# Altium integrated library Analog Devices Data Converters Analog-to-Digital Converters.IntLib: 2404 symbols (part 193 of 346)
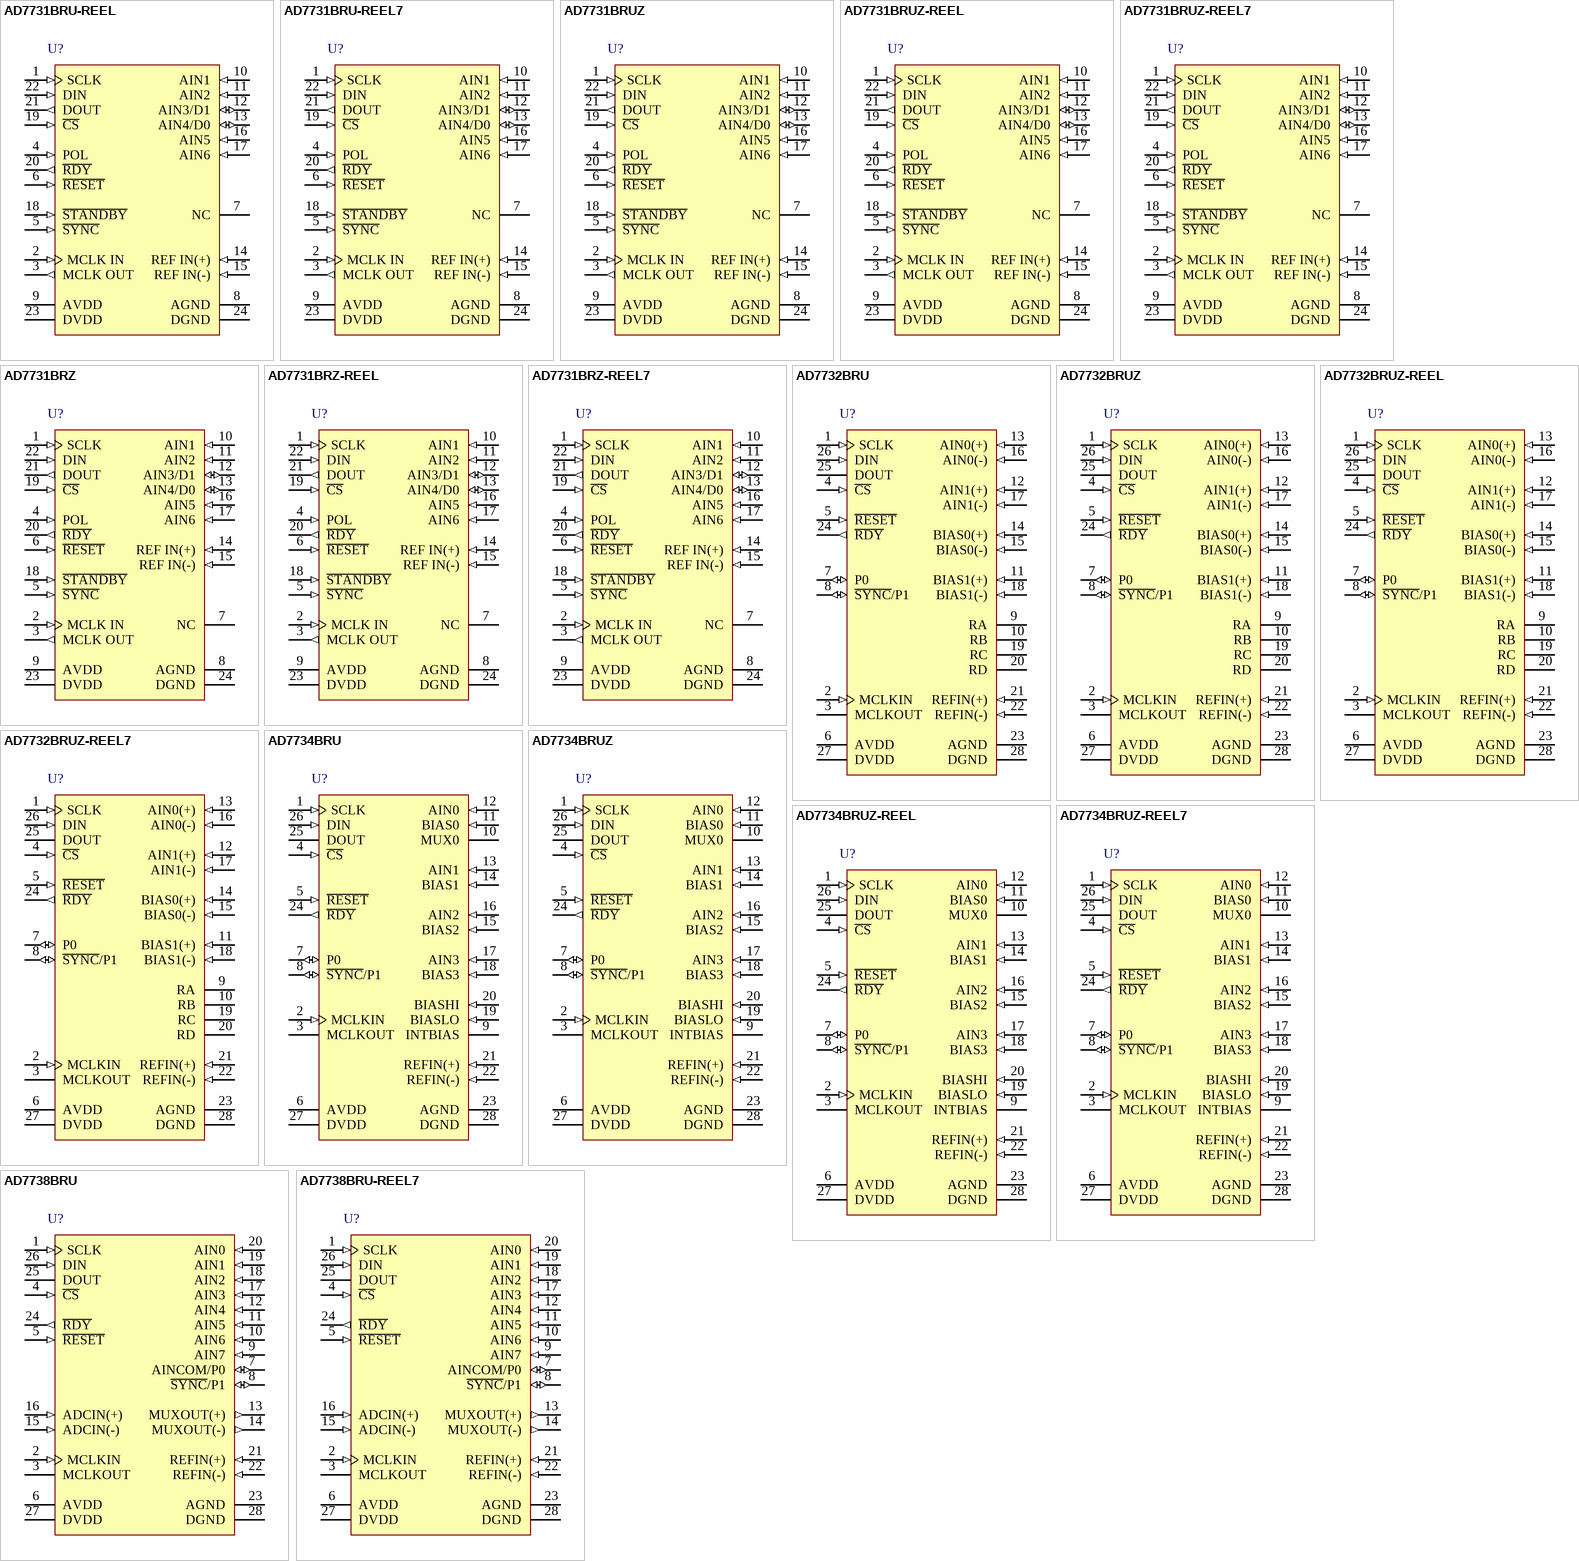
[diagram p259: symbols AD7731BRU-REEL to AD7738BRU-REEL7]

## AD7731BRUZ-REEL
designator U?
3 Channel 24-Bit Low Noise Sigma-Delta Analog-to-Digital Converter with Serial, SPI Interface, High Throughput, 6.4KSPS, -40 to +85 degC, RU-24, Pb-Free, Reel; Generic Part Number: AD7731; Manufacturer: Analog Devices; PartNumber: AD7731BRUZ-REEL; Resolution (Bits): 24; Channels: 3; Throughput Rate (SPS): 6.4K; Interface: Ser, SPI; DatasheetVersion: Rev.A; PackageVersion: 2002; PackageReference: RU-24; PackageDescription: 24-Lead Thin Shrink Small Outline Package [TSSOP]; Supplier 1: Digi-Key; Supplier Part Number 1: AD7731BRUZ-REEL-ND; Supplier 2: Mouser; Supplier Part Number 2: 584-AD7731BRUZ-R; RoHS: Y; Packing: Reel; Mounting Technology: Surface Mount; Code_JEDEC: MO-153-AD; ComponentLink1Description: Manufacturer URL; ComponentLink1URL: http://www.analog.com/en/index.html; ComponentLink2Description: Datasheet; ComponentLink2URL: http://www.analog.com/static/imported-files/data_sheets/AD7731.pdf; ComponentLink3Description: Package Specification; ComponentLink3URL: http://www.analog.com/static/imported-files/packages/380523655245964505593671154107510036154RU24.pdf; ComponentLink4Description: Product URL; ComponentLink4URL: http://www.analog.com/en/analog-to-digital-converters/ad-converters/ad7731/products/product.html
footprint RU-24_N (TSOP, 24-Leads, Body 7.8x4.4mm, Pitch 0.65mm, IPC Medium Density)
footprint RU-24_L (TSOP, 24-Leads, Body 7.8x4.4mm, Pitch 0.65mm, IPC High Density)
footprint RU-24_M (TSOP, 24-Leads, Body 7.8x4.4mm, Pitch 0.65mm, IPC Low Density)
pins: 1 SCLK (in) "Serial Clock. Schmitt-Triggered Logic Input. An external serial clock is applied to this input to transfer serial data to or from the AD7731.  This serial clock can be a continuous clock with all data transmitted in a (See Datasheet)", 2 MCLK IN (in) "Master Clock signal for the device. This can be provided in the form of a crystal/resonator or external clock. A crystal/resonator can be tied across the MCLK IN and MCLK OUT pins. Alternatively, the MCLK IN  pin can be (See Datasheet)", 3 MCLK OUT (out) "When the master clock for the device is a crystal/resonator, the crystal/resonator is connected between  MCLK IN and MCLK OUT. If an external clock is applied to the MCLK IN, MCLK OUT provides an inverted clock signal. This (See Datasheet)", 4 POL (in) "Clock Polarity. Logic Input. This determines the polarity of the serial clock. If the active edge for the processor   is a high-to-low SCLK transition, this input should be low. In this mode, the AD7731 puts out data on  the (See Datasheet)", 5 ~{SYNC} (in) "Logic Input that allows for synchronization of the digital filters and analog modulators when using a number of AD7731s. While S\Y\N\C\ is low, the nodes of the digital filter, the filter control logic and the calibration  (See Datasheet)", 6 ~{RESET} (in) "Logic Input. Active low input that resets the control logic, interface logic, digital filter, analog modulator and all on-chip registers of the part to power-on status. Effectively, everything on the part except for the (See Datasheet)", 7 NC "No Connect. The user is advised not to connect anything to this pin.", 8 AGND (power) "Ground reference point for analog circuitry.", 9 AVDD (power) "Analog Positive Supply Voltage. The AVDD to AGND differential is 5 V nominal.", 10 AIN1 (in) "Analog Input Channel 1. Programmable-gain analog input that can be used as a pseudo-differential input  when used with AIN6 or as the positive input of a differential pair when used with AIN2.", 11 AIN2 (in) "Analog Input Channel 2. Programmable-gain analog input that can be used as a pseudo-differential input  when used with AIN6 or as the positive input of a differential pair when used with AIN1.", 12 AIN3/D1 (io) "Analog Input Channel 3 or Digital Output 1. This pin can be used as either an analog input or a digital  output bit as determined by the DEN bit of the Mode Register. When selected as a programmable-gain analog input, it can (See Datasheet)", 13 AIN4/D0 (io) "Analog Input Channel 4 or Digital Output 0. This pin can be used as either an analog input or a digital  output bit as determined by the DEN bit of the Mode Register. When selected as a programmable-gain analog input, it can (See Datasheet)", 14 REF IN(+) (in) "Reference Input. Positive terminal of the differential reference input to the AD7731. REF IN(+) can lie anywhere between AVDD and AGND. The nominal reference voltage (i.e., the differential voltage between  REF IN(+) and REF (See Datasheet)", 15 REF IN(-) (in) "Reference Input. Negative terminal of the differential reference input to the AD7731. The REF IN(-) can lie anywhere between AVDD and AGND.", 16 AIN5 (in) "Analog Input Channel 5. Programmable-gain analog input which can be used is the positive input of a differential pair when used with AIN6.", 17 AIN6 (in) "Analog Input Channel 6. Reference point for AIN1 through AIN4 in pseudo-differential mode or as the negative input of a differential input pair when used with AIN5.", 18 ~{STANDBY} (in) "Logic Input. Taking this pin low shuts down the analog and digital circuitry, reducing current consumption to the 10 mA range. The on-chip registers retain all their values when the part is in standby mode.", 19 ~{CS} (in) "Chip Select. Active low Logic Input used to select the AD7731. With this input hardwired low, the  AD7731 can operate in its three-wire interface mode with SCLK, DIN and DOUT used to interface to the device. C\S\ can be used (See Datasheet)", 20 ~{RDY} (out) "Logic output. Used as a status output in both conversion mode and calibration mode. In conversion mode, a logic low on this output indicates that a new output word is available from the AD7731 data register. The R\D\Y\ pin (See Datasheet)", 21 DOUT (out) "Serial Data Output with serial data being read from the output shift register on the part. This output shift  register can contain information from the calibration registers, mode register, status register, filter register (See Datasheet)", 22 DIN (in) "Serial Data Input with serial data being written to the input shift register on the part. Data from this input  shift register is transferred to the calibration registers, mode register, communications register or filter (See Datasheet)", 23 DVDD (power) "Digital Supply Voltage, +3 V or +5 V nominal.", 24 DGND (power) "Ground reference point for digital circuitry."

## AD7731BRUZ-REEL7
designator U?
3 Channel 24-Bit Low Noise Sigma-Delta Analog-to-Digital Converter with Serial, SPI Interface, High Throughput, 6.4KSPS, -40 to +85 degC, RU-24, Pb-Free, Reel; Generic Part Number: AD7731; Manufacturer: Analog Devices; PartNumber: AD7731BRUZ-REEL7; Resolution (Bits): 24; Channels: 3; Throughput Rate (SPS): 6.4K; Interface: Ser, SPI; DatasheetVersion: Rev.A; PackageVersion: 2002; PackageReference: RU-24; PackageDescription: 24-Lead Thin Shrink Small Outline Package [TSSOP]; Supplier 1: Digi-Key; Supplier Part Number 1: AD7731BRUZ-REEL7-ND; Supplier 2: Mouser; Supplier Part Number 2: 584-AD7731BRUZ-R7; RoHS: Y; Packing: Reel; Mounting Technology: Surface Mount; Code_JEDEC: MO-153-AD; ComponentLink1Description: Manufacturer URL; ComponentLink1URL: http://www.analog.com/en/index.html; ComponentLink2Description: Datasheet; ComponentLink2URL: http://www.analog.com/static/imported-files/data_sheets/AD7731.pdf; ComponentLink3Description: Package Specification; ComponentLink3URL: http://www.analog.com/static/imported-files/packages/380523655245964505593671154107510036154RU24.pdf; ComponentLink4Description: Product URL; ComponentLink4URL: http://www.analog.com/en/analog-to-digital-converters/ad-converters/ad7731/products/product.html
footprint RU-24_N (TSOP, 24-Leads, Body 7.8x4.4mm, Pitch 0.65mm, IPC Medium Density)
footprint RU-24_L (TSOP, 24-Leads, Body 7.8x4.4mm, Pitch 0.65mm, IPC High Density)
footprint RU-24_M (TSOP, 24-Leads, Body 7.8x4.4mm, Pitch 0.65mm, IPC Low Density)
pins: 1 SCLK (in) "Serial Clock. Schmitt-Triggered Logic Input. An external serial clock is applied to this input to transfer serial data to or from the AD7731.  This serial clock can be a continuous clock with all data transmitted in a (See Datasheet)", 2 MCLK IN (in) "Master Clock signal for the device. This can be provided in the form of a crystal/resonator or external clock. A crystal/resonator can be tied across the MCLK IN and MCLK OUT pins. Alternatively, the MCLK IN  pin can be (See Datasheet)", 3 MCLK OUT (out) "When the master clock for the device is a crystal/resonator, the crystal/resonator is connected between  MCLK IN and MCLK OUT. If an external clock is applied to the MCLK IN, MCLK OUT provides an inverted clock signal. This (See Datasheet)", 4 POL (in) "Clock Polarity. Logic Input. This determines the polarity of the serial clock. If the active edge for the processor   is a high-to-low SCLK transition, this input should be low. In this mode, the AD7731 puts out data on  the (See Datasheet)", 5 ~{SYNC} (in) "Logic Input that allows for synchronization of the digital filters and analog modulators when using a number of AD7731s. While S\Y\N\C\ is low, the nodes of the digital filter, the filter control logic and the calibration  (See Datasheet)", 6 ~{RESET} (in) "Logic Input. Active low input that resets the control logic, interface logic, digital filter, analog modulator and all on-chip registers of the part to power-on status. Effectively, everything on the part except for the (See Datasheet)", 7 NC "No Connect. The user is advised not to connect anything to this pin.", 8 AGND (power) "Ground reference point for analog circuitry.", 9 AVDD (power) "Analog Positive Supply Voltage. The AVDD to AGND differential is 5 V nominal.", 10 AIN1 (in) "Analog Input Channel 1. Programmable-gain analog input that can be used as a pseudo-differential input  when used with AIN6 or as the positive input of a differential pair when used with AIN2.", 11 AIN2 (in) "Analog Input Channel 2. Programmable-gain analog input that can be used as a pseudo-differential input  when used with AIN6 or as the positive input of a differential pair when used with AIN1.", 12 AIN3/D1 (io) "Analog Input Channel 3 or Digital Output 1. This pin can be used as either an analog input or a digital  output bit as determined by the DEN bit of the Mode Register. When selected as a programmable-gain analog input, it can (See Datasheet)", 13 AIN4/D0 (io) "Analog Input Channel 4 or Digital Output 0. This pin can be used as either an analog input or a digital  output bit as determined by the DEN bit of the Mode Register. When selected as a programmable-gain analog input, it can (See Datasheet)", 14 REF IN(+) (in) "Reference Input. Positive terminal of the differential reference input to the AD7731. REF IN(+) can lie anywhere between AVDD and AGND. The nominal reference voltage (i.e., the differential voltage between  REF IN(+) and REF (See Datasheet)", 15 REF IN(-) (in) "Reference Input. Negative terminal of the differential reference input to the AD7731. The REF IN(-) can lie anywhere between AVDD and AGND.", 16 AIN5 (in) "Analog Input Channel 5. Programmable-gain analog input which can be used is the positive input of a differential pair when used with AIN6.", 17 AIN6 (in) "Analog Input Channel 6. Reference point for AIN1 through AIN4 in pseudo-differential mode or as the negative input of a differential input pair when used with AIN5.", 18 ~{STANDBY} (in) "Logic Input. Taking this pin low shuts down the analog and digital circuitry, reducing current consumption to the 10 mA range. The on-chip registers retain all their values when the part is in standby mode.", 19 ~{CS} (in) "Chip Select. Active low Logic Input used to select the AD7731. With this input hardwired low, the  AD7731 can operate in its three-wire interface mode with SCLK, DIN and DOUT used to interface to the device. C\S\ can be used (See Datasheet)", 20 ~{RDY} (out) "Logic output. Used as a status output in both conversion mode and calibration mode. In conversion mode, a logic low on this output indicates that a new output word is available from the AD7731 data register. The R\D\Y\ pin (See Datasheet)", 21 DOUT (out) "Serial Data Output with serial data being read from the output shift register on the part. This output shift  register can contain information from the calibration registers, mode register, status register, filter register (See Datasheet)", 22 DIN (in) "Serial Data Input with serial data being written to the input shift register on the part. Data from this input  shift register is transferred to the calibration registers, mode register, communications register or filter (See Datasheet)", 23 DVDD (power) "Digital Supply Voltage, +3 V or +5 V nominal.", 24 DGND (power) "Ground reference point for digital circuitry."

## AD7731BRZ
designator U?
3 Channel 24-Bit Low Noise Sigma-Delta Analog-to-Digital Converter with Serial, SPI Interface, High Throughput, 6.4KSPS, 0 to +70 degC, RW-24, Pb-Free, Tube; Generic Part Number: AD7731; Manufacturer: Analog Devices; PartNumber: AD7731BRZ; Resolution (Bits): 24; Channels: 3; Throughput Rate (SPS): 6.4K; Interface: Ser, SPI; DatasheetVersion: Rev.A; PackageVersion: 060706-A; PackageReference: RW-24; PackageDescription: 24-Lead Standard Small Outline Package [SOIC_W]; Supplier 1: Digi-Key; Supplier Part Number 1: AD7731BRZ-ND; Supplier 2: Farnell; Supplier Part Number 2: 2305563; Supplier 3: Newark; Supplier Part Number 3: 84W7443; Supplier 4: Newark; Supplier Part Number 4: 59K5389; Supplier 5: Mouser; Supplier Part Number 5: 584-AD7731BRZ; RoHS: Y; Packing: Tube; Mounting Technology: Surface Mount; Code_JEDEC: MS-013-AD; ComponentLink1Description: Manufacturer URL; ComponentLink1URL: http://www.analog.com/en/index.html; ComponentLink2Description: Datasheet; ComponentLink2URL: http://www.analog.com/static/imported-files/data_sheets/AD7731.pdf; ComponentLink3Description: Package Specification; ComponentLink3URL: http://www.analog.com/static/imported-files/packages/33665150946139RW_24.pdf; ComponentLink4Description: Product URL; ComponentLink4URL: http://www.analog.com/en/analog-to-digital-converters/ad-converters/ad7731/products/product.html
footprint RW-24_N (SOIC, 24-Leads, Body 15.4x7.5mm, Pitch 1.27mm, IPC Medium Density)
footprint RW-24_L (SOIC, 24-Leads, Body 15.4x7.5mm, Pitch 1.27mm, IPC High Density)
footprint RW-24_M (SOIC, 24-Leads, Body 15.4x7.5mm, Pitch 1.27mm, IPC Low Density)
pins: 1 SCLK (in) "Serial Clock. Schmitt-Triggered Logic Input. An external serial clock is applied to this input to transfer serial data to or from the AD7731. This serial clock can be a continuous clock with all data transmitted in a (See Datasheet)", 2 MCLK IN (in) "Master Clock signal for the device. This can be provided in the form of a crystal/resonator or external clock.A crystal/resonator can be tied across the MCLK IN and MCLK OUT pins. Alternatively, the MCLK IN pin can be driven (See Datasheet)", 3 MCLK OUT (out) "When the master clock for the device is a crystal/resonator, the crystal/resonator is connected between MCLK IN and MCLK OUT. If an external clock is applied to the MCLK IN, MCLK OUT provides an inverted clock signal. This (See Datasheet)", 4 POL (in) "Clock Polarity. Logic Input. This determines the polarity of the serial clock. If the active edge for the processor is a high-to-low SCLK transition, this input should be low. In this mode, the AD7731 puts out data on the (See Datasheet)", 5 ~{SYNC} (in) "Logic Input that allows for synchronization of the digital filters and analog modulators when using a number of AD7731s. While S\Y\N\C\ is low, the nodes of the digital filter, the filter control logic and the calibration (See Datasheet)", 6 ~{RESET} (in) "Logic Input. Active low input that resets the control logic, interface logic, digital filter, analog modulator and all on-chip registers of the part to power-on status. Effectively, everything on the part except for the (See Datasheet)", 7 NC "No Connect. The user is advised not to connect anything to this pin.", 8 AGND (power) "Ground reference point for analog circuitry", 9 AVDD (power) "Analog Positive Supply Voltage. The AVDD to AGND differential is 5 V nominal.", 10 AIN1 (in) "Analog Input Channel 1. Programmable-gain analog input that can be used as a pseudo-differential input when used with AIN6 or as the positive input of a differential pair when used with AIN2.", 11 AIN2 (in) "Analog Input Channel 2. Programmable-gain analog input that can be used as a pseudo-differential input when used with AIN6 or as the negative input of a differential pair when used with AIN1.", 12 AIN3/D1 (io) "Analog Input Channel 3 or Digital Output 1. This pin can be used as either an analog input or a digital output bit as determined by the DEN bit of the Mode Register. When selected as a programmable-gain analog input, it can (See Datasheet)", 13 AIN4/D0 (io) "Analog Input Channel 4 or Digital Output 0. This pin can be used as either an analog input or a digital output bit as determined by the DEN bit of the Mode Register. When selected as a programmable-gain analog input, it can (See Datasheet)", 14 REF IN(+) (in) "Reference Input. Positive terminal of the differential reference input to the AD7731. REF IN(+) can lie anywhere between AVDD and AGND. The nominal reference voltage (i.e., the differential voltage between REF IN(+) and REF (See Datasheet)", 15 REF IN(-) (in) "Reference Input. Negative terminal of the differential reference input to the AD7731. The REF IN(-) can lie anywhere between AVDD and AGND.", 16 AIN5 (in) "Analog Input Channel 5. Programmable-gain analog input which can be used is the positive input of a differ ential pair when used with AIN6.", 17 AIN6 (in) "Analog Input Channel 6. Reference point for AIN1 through AIN4 in pseudo-differential mode or as the negative input of a differential input pair when used with AIN5.", 18 ~{STANDBY} (in) "Logic Input. Taking this pin low shuts down the analog and digital circuitry, reducing current consumption to the 10 μA range. The on-chip registers retain all their values when the part is in standby mode.", 19 ~{CS} (in) "Chip Select. Active low Logic Input used to select the AD7731. With this input hardwired low, the AD7731 can operate in its three-wire interface mode with SCLK, DIN and DOUT used to interface to the device. C\S\ can be used (See Datasheet)", 20 ~{RDY} (out) "Logic output. Used as a status output in both conversion mode and calibration mode. In conversion mode, a logic low on this output indicates that a new output word is available from the AD7731 data register. The R\D\Y\ pin (See Datasheet)", 21 DOUT (out) "Serial Data Output with serial data being read from the output shift register on the part. This output shift register can contain information from the calibration registers, mode register, status register, filter register or (See Datasheet)", 22 DIN (in) "Serial Data Input with serial data being written to the input shift register on the part. Data from this input shift register is transferred to the calibration registers, mode register, communications register or filter (See Datasheet)", 23 DVDD (power) "Digital Supply Voltage, +3 V or +5 V nominal.", 24 DGND (power) "Ground reference point for digital circuitry"

## AD7731BRZ-REEL
designator U?
3 Channel 24-Bit Low Noise Sigma-Delta Analog-to-Digital Converter with Serial, SPI Interface, High Throughput, 6.4KSPS, 0 to +70 degC, RW-24, Pb-Free, Reel; Generic Part Number: AD7731; Manufacturer: Analog Devices; PartNumber: AD7731BRZ-REEL; Resolution (Bits): 24; Channels: 3; Throughput Rate (SPS): 6.4K; Interface: Ser, SPI; DatasheetVersion: Rev.A; PackageVersion: 060706-A; PackageReference: RW-24; PackageDescription: 24-Lead Standard Small Outline Package [SOIC_W]; Supplier 1: Digi-Key; Supplier Part Number 1: AD7731BRZ-REEL-ND; Supplier 2: Mouser; Supplier Part Number 2: 584-AD7731BRZ-R; RoHS: Y; Packing: Reel; Mounting Technology: Surface Mount; Code_JEDEC: MS-013-AD; ComponentLink1Description: Manufacturer URL; ComponentLink1URL: http://www.analog.com/en/index.html; ComponentLink2Description: Datasheet; ComponentLink2URL: http://www.analog.com/static/imported-files/data_sheets/AD7731.pdf; ComponentLink3Description: Package Specification; ComponentLink3URL: http://www.analog.com/static/imported-files/packages/33665150946139RW_24.pdf; ComponentLink4Description: Product URL; ComponentLink4URL: http://www.analog.com/en/analog-to-digital-converters/ad-converters/ad7731/products/product.html
footprint RW-24_N (SOIC, 24-Leads, Body 15.4x7.5mm, Pitch 1.27mm, IPC Medium Density)
footprint RW-24_L (SOIC, 24-Leads, Body 15.4x7.5mm, Pitch 1.27mm, IPC High Density)
footprint RW-24_M (SOIC, 24-Leads, Body 15.4x7.5mm, Pitch 1.27mm, IPC Low Density)
pins: 1 SCLK (in) "Serial Clock. Schmitt-Triggered Logic Input. An external serial clock is applied to this input to transfer serial data to or from the AD7731. This serial clock can be a continuous clock with all data transmitted in a (See Datasheet)", 2 MCLK IN (in) "Master Clock signal for the device. This can be provided in the form of a crystal/resonator or external clock.A crystal/resonator can be tied across the MCLK IN and MCLK OUT pins. Alternatively, the MCLK IN pin can be driven (See Datasheet)", 3 MCLK OUT (out) "When the master clock for the device is a crystal/resonator, the crystal/resonator is connected between MCLK IN and MCLK OUT. If an external clock is applied to the MCLK IN, MCLK OUT provides an inverted clock signal. This (See Datasheet)", 4 POL (in) "Clock Polarity. Logic Input. This determines the polarity of the serial clock. If the active edge for the processor is a high-to-low SCLK transition, this input should be low. In this mode, the AD7731 puts out data on the (See Datasheet)", 5 ~{SYNC} (in) "Logic Input that allows for synchronization of the digital filters and analog modulators when using a number of AD7731s. While S\Y\N\C\ is low, the nodes of the digital filter, the filter control logic and the calibration (See Datasheet)", 6 ~{RESET} (in) "Logic Input. Active low input that resets the control logic, interface logic, digital filter, analog modulator and all on-chip registers of the part to power-on status. Effectively, everything on the part except for the (See Datasheet)", 7 NC "No Connect. The user is advised not to connect anything to this pin.", 8 AGND (power) "Ground reference point for analog circuitry", 9 AVDD (power) "Analog Positive Supply Voltage. The AVDD to AGND differential is 5 V nominal.", 10 AIN1 (in) "Analog Input Channel 1. Programmable-gain analog input that can be used as a pseudo-differential input when used with AIN6 or as the positive input of a differential pair when used with AIN2.", 11 AIN2 (in) "Analog Input Channel 2. Programmable-gain analog input that can be used as a pseudo-differential input when used with AIN6 or as the negative input of a differential pair when used with AIN1.", 12 AIN3/D1 (io) "Analog Input Channel 3 or Digital Output 1. This pin can be used as either an analog input or a digital output bit as determined by the DEN bit of the Mode Register. When selected as a programmable-gain analog input, it can (See Datasheet)", 13 AIN4/D0 (io) "Analog Input Channel 4 or Digital Output 0. This pin can be used as either an analog input or a digital output bit as determined by the DEN bit of the Mode Register. When selected as a programmable-gain analog input, it can (See Datasheet)", 14 REF IN(+) (in) "Reference Input. Positive terminal of the differential reference input to the AD7731. REF IN(+) can lie anywhere between AVDD and AGND. The nominal reference voltage (i.e., the differential voltage between REF IN(+) and REF (See Datasheet)", 15 REF IN(-) (in) "Reference Input. Negative terminal of the differential reference input to the AD7731. The REF IN(-) can lie anywhere between AVDD and AGND.", 16 AIN5 (in) "Analog Input Channel 5. Programmable-gain analog input which can be used is the positive input of a differ ential pair when used with AIN6.", 17 AIN6 (in) "Analog Input Channel 6. Reference point for AIN1 through AIN4 in pseudo-differential mode or as the negative input of a differential input pair when used with AIN5.", 18 ~{STANDBY} (in) "Logic Input. Taking this pin low shuts down the analog and digital circuitry, reducing current consumption to the 10 μA range. The on-chip registers retain all their values when the part is in standby mode.", 19 ~{CS} (in) "Chip Select. Active low Logic Input used to select the AD7731. With this input hardwired low, the AD7731 can operate in its three-wire interface mode with SCLK, DIN and DOUT used to interface to the device. C\S\ can be used (See Datasheet)", 20 ~{RDY} (out) "Logic output. Used as a status output in both conversion mode and calibration mode. In conversion mode, a logic low on this output indicates that a new output word is available from the AD7731 data register. The R\D\Y\ pin (See Datasheet)", 21 DOUT (out) "Serial Data Output with serial data being read from the output shift register on the part. This output shift register can contain information from the calibration registers, mode register, status register, filter register or (See Datasheet)", 22 DIN (in) "Serial Data Input with serial data being written to the input shift register on the part. Data from this input shift register is transferred to the calibration registers, mode register, communications register or filter (See Datasheet)", 23 DVDD (power) "Digital Supply Voltage, +3 V or +5 V nominal.", 24 DGND (power) "Ground reference point for digital circuitry"

## AD7731BRZ-REEL7
designator U?
3 Channel 24-Bit Low Noise Sigma-Delta Analog-to-Digital Converter with Serial, SPI Interface, High Throughput, 6.4KSPS, 0 to +70 degC, RW-24, Pb-Free, Reel; Generic Part Number: AD7731; Manufacturer: Analog Devices; PartNumber: AD7731BRZ-REEL7; Resolution (Bits): 24; Channels: 3; Throughput Rate (SPS): 6.4K; Interface: Ser, SPI; DatasheetVersion: Rev.A; PackageVersion: 060706-A; PackageReference: RW-24; PackageDescription: 24-Lead Standard Small Outline Package [SOIC_W]; Supplier 1: Digi-Key; Supplier Part Number 1: AD7731BRZ-REEL7-ND; Supplier 2: Mouser; Supplier Part Number 2: 584-AD7731BRZ-R7; RoHS: Y; Packing: Reel; Mounting Technology: Surface Mount; Code_JEDEC: MS-013-AD; ComponentLink1Description: Manufacturer URL; ComponentLink1URL: http://www.analog.com/en/index.html; ComponentLink2Description: Datasheet; ComponentLink2URL: http://www.analog.com/static/imported-files/data_sheets/AD7731.pdf; ComponentLink3Description: Package Specification; ComponentLink3URL: http://www.analog.com/static/imported-files/packages/33665150946139RW_24.pdf; ComponentLink4Description: Product URL; ComponentLink4URL: http://www.analog.com/en/analog-to-digital-converters/ad-converters/ad7731/products/product.html
footprint RW-24_N (SOIC, 24-Leads, Body 15.4x7.5mm, Pitch 1.27mm, IPC Medium Density)
footprint RW-24_L (SOIC, 24-Leads, Body 15.4x7.5mm, Pitch 1.27mm, IPC High Density)
footprint RW-24_M (SOIC, 24-Leads, Body 15.4x7.5mm, Pitch 1.27mm, IPC Low Density)
pins: 1 SCLK (in) "Serial Clock. Schmitt-Triggered Logic Input. An external serial clock is applied to this input to transfer serial data to or from the AD7731. This serial clock can be a continuous clock with all data transmitted in a (See Datasheet)", 2 MCLK IN (in) "Master Clock signal for the device. This can be provided in the form of a crystal/resonator or external clock.A crystal/resonator can be tied across the MCLK IN and MCLK OUT pins. Alternatively, the MCLK IN pin can be driven (See Datasheet)", 3 MCLK OUT (out) "When the master clock for the device is a crystal/resonator, the crystal/resonator is connected between MCLK IN and MCLK OUT. If an external clock is applied to the MCLK IN, MCLK OUT provides an inverted clock signal. This (See Datasheet)", 4 POL (in) "Clock Polarity. Logic Input. This determines the polarity of the serial clock. If the active edge for the processor is a high-to-low SCLK transition, this input should be low. In this mode, the AD7731 puts out data on the (See Datasheet)", 5 ~{SYNC} (in) "Logic Input that allows for synchronization of the digital filters and analog modulators when using a number of AD7731s. While S\Y\N\C\ is low, the nodes of the digital filter, the filter control logic and the calibration (See Datasheet)", 6 ~{RESET} (in) "Logic Input. Active low input that resets the control logic, interface logic, digital filter, analog modulator and all on-chip registers of the part to power-on status. Effectively, everything on the part except for the (See Datasheet)", 7 NC "No Connect. The user is advised not to connect anything to this pin.", 8 AGND (power) "Ground reference point for analog circuitry", 9 AVDD (power) "Analog Positive Supply Voltage. The AVDD to AGND differential is 5 V nominal.", 10 AIN1 (in) "Analog Input Channel 1. Programmable-gain analog input that can be used as a pseudo-differential input when used with AIN6 or as the positive input of a differential pair when used with AIN2.", 11 AIN2 (in) "Analog Input Channel 2. Programmable-gain analog input that can be used as a pseudo-differential input when used with AIN6 or as the negative input of a differential pair when used with AIN1.", 12 AIN3/D1 (io) "Analog Input Channel 3 or Digital Output 1. This pin can be used as either an analog input or a digital output bit as determined by the DEN bit of the Mode Register. When selected as a programmable-gain analog input, it can (See Datasheet)", 13 AIN4/D0 (io) "Analog Input Channel 4 or Digital Output 0. This pin can be used as either an analog input or a digital output bit as determined by the DEN bit of the Mode Register. When selected as a programmable-gain analog input, it can (See Datasheet)", 14 REF IN(+) (in) "Reference Input. Positive terminal of the differential reference input to the AD7731. REF IN(+) can lie anywhere between AVDD and AGND. The nominal reference voltage (i.e., the differential voltage between REF IN(+) and REF (See Datasheet)", 15 REF IN(-) (in) "Reference Input. Negative terminal of the differential reference input to the AD7731. The REF IN(-) can lie anywhere between AVDD and AGND.", 16 AIN5 (in) "Analog Input Channel 5. Programmable-gain analog input which can be used is the positive input of a differ ential pair when used with AIN6.", 17 AIN6 (in) "Analog Input Channel 6. Reference point for AIN1 through AIN4 in pseudo-differential mode or as the negative input of a differential input pair when used with AIN5.", 18 ~{STANDBY} (in) "Logic Input. Taking this pin low shuts down the analog and digital circuitry, reducing current consumption to the 10 μA range. The on-chip registers retain all their values when the part is in standby mode.", 19 ~{CS} (in) "Chip Select. Active low Logic Input used to select the AD7731. With this input hardwired low, the AD7731 can operate in its three-wire interface mode with SCLK, DIN and DOUT used to interface to the device. C\S\ can be used (See Datasheet)", 20 ~{RDY} (out) "Logic output. Used as a status output in both conversion mode and calibration mode. In conversion mode, a logic low on this output indicates that a new output word is available from the AD7731 data register. The R\D\Y\ pin (See Datasheet)", 21 DOUT (out) "Serial Data Output with serial data being read from the output shift register on the part. This output shift register can contain information from the calibration registers, mode register, status register, filter register or (See Datasheet)", 22 DIN (in) "Serial Data Input with serial data being written to the input shift register on the part. Data from this input shift register is transferred to the calibration registers, mode register, communications register or filter (See Datasheet)", 23 DVDD (power) "Digital Supply Voltage, +3 V or +5 V nominal.", 24 DGND (power) "Ground reference point for digital circuitry"

## AD7732BRU
designator U?
Dual 24-Bit Sigma-Delta Analog-to-Digital Converter with Serial, SPI Interface, +/-10 V, 15.4KSPS, -40 to +105 degC, RU-28, Tube; Generic Part Number: AD7732; Manufacturer: Analog Devices; PartNumber: AD7732BRU; Resolution (Bits): 24; Channels: 2; Throughput Rate (SPS): 15.4K; Interface: Ser, SPI; DatasheetVersion: Rev.A; PackageVersion: 2005; PackageReference: RU-28; PackageDescription: 28-Lead Thin Shrink Small Outline Package [TSSOP]; Supplier 1: Digi-Key; Supplier Part Number 1: AD7732BRU-ND; Supplier 2: Mouser; Supplier Part Number 2: 584-AD7732BRU; RoHS: N; Packing: Tube; Mounting Technology: Surface Mount; Code_JEDEC: MO-153-AE; ComponentLink1Description: Manufacturer URL; ComponentLink1URL: http://www.analog.com/en/index.html; ComponentLink2Description: Datasheet; ComponentLink2URL: http://www.analog.com/static/imported-files/data_sheets/AD7732.pdf; ComponentLink3Description: Package Specification; ComponentLink3URL: http://www.analog.com/static/imported-files/packages/249854663RU_28.pdf; ComponentLink4Description: Product URL; ComponentLink4URL: http://www.analog.com/en/analog-to-digital-converters/ad-converters/ad7732/products/product.html
footprint RU-28_N (TSOP, 28-Leads, Body 9.7x4.4mm, Pitch 0.65mm, IPC Medium Density)
footprint RU-28_L (TSOP, 28-Leads, Body 9.7x4.4mm, Pitch 0.65mm, IPC High Density)
footprint RU-28_M (TSOP, 28-Leads, Body 9.7x4.4mm, Pitch 0.65mm, IPC Low Density)
pins: 1 SCLK (in) "Serial Clock. Schmitt triggered logic input. An external serial clock is applied to this input to transfer serial data to or from the AD7732.", 2 MCLKIN (in) "Master Clock Signal for the ADC. This can be provided in the form of a crystal/resonator or external clock. A crystal/resonator can be tied across the MCLKIN and MCLKOUT pins. Alternatively, the MCLKIN pin can be driven with (See Datasheet)", 3 MCLKOUT (hiz) "When the master clock for the device is a crystal/resonator, the crystal/resonator is connected between MCLKIN and MCLKOUT. If an external clock is applied to the MCLKIN, MCLKOUT provides an inverted clock signal or can be (See Datasheet)", 4 ~{CS} (in) "Chip Select. Active low Schmitt triggered logic input with an internal pull-up resistor. With this input hardwired low, the AD7732 can operate in its 3-wire interface mode using SCLK, DIN, and DOUT. C\S\ can be used to (See Datasheet)", 5 ~{RESET} (in) "Schmitt Triggered Logic Input. Active low input that resets the control logic, interface logic, digital filter, analog modulator, and all on-chip registers of the part to power-on status. Effectively, everything on the part (See Datasheet)", 6 AVDD (power) "Analog Positive Supply Voltage. 5 V to AGND nominal.", 7 P0 (io) "Digital Input/Output. The pin direction is determined by the P0 DIR bit; the digital value can be read/written as the P0 bit in the I/O port register. The digital voltage is referenced to analog supplies. When configured as (See Datasheet)", 8 ~{SYNC}/P1 (io) "S\Y\N\C\/Digital Input/Digital Output. The pin direction is determined by the P1 DIR bit; the digital value can be read/written as the P1 bit in the I/O port register. When the SYNC bit in the I/O port register is set to 1, (See Datasheet)", 9 RA "RA, in association with RB and BIAS0(+), can be used to level shift the positive analog input 0. In normal circuit configuration, this pin is left open circuit.", 10 RB "RB, in association with RA and BIAS0(+), can be used to level shift the positive analog input 0. In normal circuit configuration, this pin is left open circuit.", 11 BIAS1(+) (in) "This input is used to level shift the positive analog input 1. This signal is used to ensure that the differential signal seen by the internal buffer amplifier is within its common-mode range. BIAS pins will normally be (See Datasheet)", 12 AIN1(+) (in) "Positive Analog Input Channel 1.", 13 AIN0(+) (in) "Positive Analog Input Channel 0.", 14 BIAS0(+) (in) "Voltage Bias for Positive Analog Input 0. This pin has the same function as BIAS1(+).", 15 BIAS0(-) (in) "Voltage Bias for Negative Analog Input 0. This pin has the same function as BIAS1(+).", 16 AIN0(-) (in) "Negative Analog Input Channel 0.", 17 AIN1(-) (in) "Negative Analog Input Channel 1.", 18 BIAS1(-) (in) "Voltage Bias for Negative Analog Input 1. This pin has the same function as BIAS1(+).", 19 RC "RC, in association with RD and BIAS0(-), can be used to level shift the negative analog input 0. In normal circuit configuration, this pin is left open circuit.", 20 RD "RD, in association with RC and BIAS0(-), can be used to level shift the negative analog input 0. In normal circuit configuration, this pin is left open circuit.", 21 REFIN(+) (in) "Positive Terminal of the Differential Reference Input. REFIN(+) voltage potential can lie anywhere between AVDD and AGND. In normal circuit configuration, this pin should be connected to a 2.5 V reference voltage.", 22 REFIN(-) (in) "Negative Terminal of the Differential Reference Input. REFIN(-) voltage potential can lie anywhere between AVDD and AGND. In normal circuit configuration, this pin should be connected to a 0 V reference voltage.", 23 AGND (power) "Ground Reference Point for Analog Circuitry.", 24 ~{RDY} (out) "Logic Output. Used as a status output in both conversion mode and calibration mode. In conversion mode, a falling edge on this output indicates that either any channel or all channels have unread data available, according to (See Datasheet)", 25 DOUT (hiz) "Serial data output with serial data being read from the output shift register on the part. This output shift register can contain information from any AD7732 register, depending on the address bits of the communications (See Datasheet)", 26 DIN (in) "Serial data input (Schmitt triggered) with serial data being written to the input shift register on the part. Data from this input shift register is transferred to any AD7732 register, depending on the address bits of the (See Datasheet)", 27 DVDD (power) "Digital Supply Voltage, 3 V or 5 V Nominal.", 28 DGND (power) "Ground Reference Point for Digital Circuitry."

## AD7732BRUZ
designator U?
Dual 24-Bit Sigma-Delta Analog-to-Digital Converter with Serial, SPI Interface, +/-10 V, 15.4KSPS, -40 to +105 degC, RU-28, Pb-Free, Tube; Generic Part Number: AD7732; Manufacturer: Analog Devices; PartNumber: AD7732BRUZ; Resolution (Bits): 24; Channels: 2; Throughput Rate (SPS): 15.4K; Interface: Ser, SPI; DatasheetVersion: Rev.A; PackageVersion: 2005; PackageReference: RU-28; PackageDescription: 28-Lead Thin Shrink Small Outline Package [TSSOP]; Supplier 1: Digi-Key; Supplier Part Number 1: AD7732BRUZ-ND; Supplier 2: Farnell; Supplier Part Number 2: 1581937; Supplier 3: Newark; Supplier Part Number 3: 59K5392; Supplier 4: Mouser; Supplier Part Number 4: 584-AD7732BRUZ; RoHS: Y; Packing: Tube; Mounting Technology: Surface Mount; Code_JEDEC: MO-153-AE; ComponentLink1Description: Manufacturer URL; ComponentLink1URL: http://www.analog.com/en/index.html; ComponentLink2Description: Datasheet; ComponentLink2URL: http://www.analog.com/static/imported-files/data_sheets/AD7732.pdf; ComponentLink3Description: Package Specification; ComponentLink3URL: http://www.analog.com/static/imported-files/packages/249854663RU_28.pdf; ComponentLink4Description: Product URL; ComponentLink4URL: http://www.analog.com/en/analog-to-digital-converters/ad-converters/ad7732/products/product.html
footprint RU-28_N (TSOP, 28-Leads, Body 9.7x4.4mm, Pitch 0.65mm, IPC Medium Density)
footprint RU-28_L (TSOP, 28-Leads, Body 9.7x4.4mm, Pitch 0.65mm, IPC High Density)
footprint RU-28_M (TSOP, 28-Leads, Body 9.7x4.4mm, Pitch 0.65mm, IPC Low Density)
pins: 1 SCLK (in) "Serial Clock. Schmitt triggered logic input. An external serial clock is applied to this input to transfer serial data to or from the AD7732.", 2 MCLKIN (in) "Master Clock Signal for the ADC. This can be provided in the form of a crystal/resonator or external clock. A crystal/resonator can be tied across the MCLKIN and MCLKOUT pins. Alternatively, the MCLKIN pin can be driven with (See Datasheet)", 3 MCLKOUT (hiz) "When the master clock for the device is a crystal/resonator, the crystal/resonator is connected between MCLKIN and MCLKOUT. If an external clock is applied to the MCLKIN, MCLKOUT provides an inverted clock signal or can be (See Datasheet)", 4 ~{CS} (in) "Chip Select. Active low Schmitt triggered logic input with an internal pull-up resistor. With this input hardwired low, the AD7732 can operate in its 3-wire interface mode using SCLK, DIN, and DOUT. C\S\ can be used to (See Datasheet)", 5 ~{RESET} (in) "Schmitt Triggered Logic Input. Active low input that resets the control logic, interface logic, digital filter, analog modulator, and all on-chip registers of the part to power-on status. Effectively, everything on the part (See Datasheet)", 6 AVDD (power) "Analog Positive Supply Voltage. 5 V to AGND nominal.", 7 P0 (io) "Digital Input/Output. The pin direction is determined by the P0 DIR bit; the digital value can be read/written as the P0 bit in the I/O port register. The digital voltage is referenced to analog supplies. When configured as (See Datasheet)", 8 ~{SYNC}/P1 (io) "S\Y\N\C\/Digital Input/Digital Output. The pin direction is determined by the P1 DIR bit; the digital value can be read/written as the P1 bit in the I/O port register. When the SYNC bit in the I/O port register is set to 1, (See Datasheet)", 9 RA "RA, in association with RB and BIAS0(+), can be used to level shift the positive analog input 0. In normal circuit configuration, this pin is left open circuit.", 10 RB "RB, in association with RA and BIAS0(+), can be used to level shift the positive analog input 0. In normal circuit configuration, this pin is left open circuit.", 11 BIAS1(+) (in) "This input is used to level shift the positive analog input 1. This signal is used to ensure that the differential signal seen by the internal buffer amplifier is within its common-mode range. BIAS pins will normally be (See Datasheet)", 12 AIN1(+) (in) "Positive Analog Input Channel 1.", 13 AIN0(+) (in) "Positive Analog Input Channel 0.", 14 BIAS0(+) (in) "Voltage Bias for Positive Analog Input 0. This pin has the same function as BIAS1(+).", 15 BIAS0(-) (in) "Voltage Bias for Negative Analog Input 0. This pin has the same function as BIAS1(+).", 16 AIN0(-) (in) "Negative Analog Input Channel 0.", 17 AIN1(-) (in) "Negative Analog Input Channel 1.", 18 BIAS1(-) (in) "Voltage Bias for Negative Analog Input 1. This pin has the same function as BIAS1(+).", 19 RC "RC, in association with RD and BIAS0(-), can be used to level shift the negative analog input 0. In normal circuit configuration, this pin is left open circuit.", 20 RD "RD, in association with RC and BIAS0(-), can be used to level shift the negative analog input 0. In normal circuit configuration, this pin is left open circuit.", 21 REFIN(+) (in) "Positive Terminal of the Differential Reference Input. REFIN(+) voltage potential can lie anywhere between AVDD and AGND. In normal circuit configuration, this pin should be connected to a 2.5 V reference voltage.", 22 REFIN(-) (in) "Negative Terminal of the Differential Reference Input. REFIN(-) voltage potential can lie anywhere between AVDD and AGND. In normal circuit configuration, this pin should be connected to a 0 V reference voltage.", 23 AGND (power) "Ground Reference Point for Analog Circuitry.", 24 ~{RDY} (out) "Logic Output. Used as a status output in both conversion mode and calibration mode. In conversion mode, a falling edge on this output indicates that either any channel or all channels have unread data available, according to (See Datasheet)", 25 DOUT (hiz) "Serial data output with serial data being read from the output shift register on the part. This output shift register can contain information from any AD7732 register, depending on the address bits of the communications (See Datasheet)", 26 DIN (in) "Serial data input (Schmitt triggered) with serial data being written to the input shift register on the part. Data from this input shift register is transferred to any AD7732 register, depending on the address bits of the (See Datasheet)", 27 DVDD (power) "Digital Supply Voltage, 3 V or 5 V Nominal.", 28 DGND (power) "Ground Reference Point for Digital Circuitry."